# EAGLE library part MC78L08A (library MC78L08A)
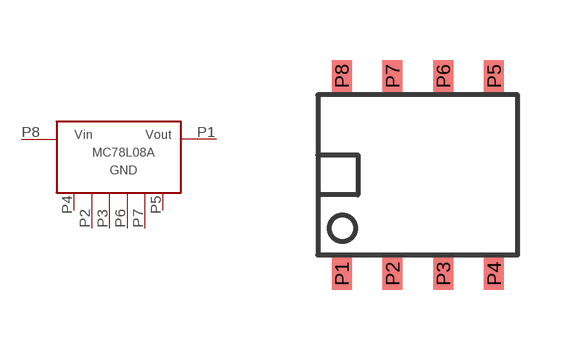
[diagram p0: symbol with the pads of MC78L08A; footprint MC78L08A]

Designator prefix -

## MC78L08A  [MC78L08A]
P1  VOUT  out
P2  GND  pwr
P3  GND.  pwr
P4  NC  nc
P5  NC.  nc
P6  GND..  pwr
P7  GND...  pwr
P8  VIN  in

## Footprint MC78L08A (pad centres in mm)
smd 0.5 x 0.8: P1 -1.96,-2.37; P2 -0.69,-2.37; P3 0.58,-2.37; P4 1.85,-2.37; P5 1.85,2.57; P6 0.58,2.57; P7 -0.69,2.57; P8 -1.96,2.57